# Altium schematic symbol library HandSolderPadPWR.SchLib: 1 symbol
Pins are listed as number, name and electrical type; pins without a type are passive.

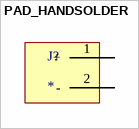
[diagram p0: symbol PAD_HANDSOLDER]

## PAD_HANDSOLDER
designator J?
HandSolder Pad for PWR IN
footprint PCBComponent_1
pins: 1 +, 2 -